# EAGLE library part MT48LC32M16A2 (library dan-dram)
MT48LC32M16A2 Synchronous DRAM The 512Mb SDRAM is a high-speed CMOS, dynamic random-access memory containing 536,870,912 bits. It is internally configured as a quad-bank DRAM with a synchronous interface (all signals are registered on the positive edge of the clock signal, CLK). Each of the x4?s 134,217,728-bit banks is organized as 8,192 rows by 4,096 columns by 4 bits. Each of the x8?s 134,217,728-bit banks is organized as 8,192 rows by 2,048 columns by 8 bits. Each of the x16?s 134,217,728-bit banks is organized as 8,192 rows by 1,024 columns by 16 bits. Read and write accesses to the SDRAM are burst oriented; accesses start at a selected location and continue for a programmed number of locations in a programmed sequence. Accesses begin with the registration of an ACTIVE command, which is then followed by a READ or WRITE command. The address bits registered coincident with the ACTIVE command are used to select the bank and row to be accessed (BA0, BA1 select the bank; A0?A12 select the row). The address bits registered coincident with the READ or WRITE command are used to select the starting column location for the burst access. The SDRAM provides for programmable READ or WRITE burst lengths (BL) of 1, 2, 4, or 8 locations, or the full page, with a burst terminate option. An auto precharge function may be enabled to provide a self-timed row precharge that is initiated at the end of the burst sequence. The 512Mb SDRAM uses an internal pipelined architecture to achieve high-speed operation. This architecture is compatible with the 2n rule of prefetch architectures, but it also allows the column address to be changed on every clock cycle to achieve a high-speed, fully random access. Precharging one bank while accessing one of the other three banks will hide the PRECHARGE cycles and provide seamless, high-speed, random-access operation. The 512Mb SDRAM is designed to operate at 3.3V. An auto refresh mode is provided, along with a power-saving, power-down mode. All inputs and outputs are LVTTLcompatible. SDRAMs offer substantial advances in DRAM operating performance, including the ability to synchronously burst data at a high data rate with automatic column-address generation, the ability to interleave between internal banks to hide precharge time, and the capability to randomly change column addresses on each clock cycle during a burst access.
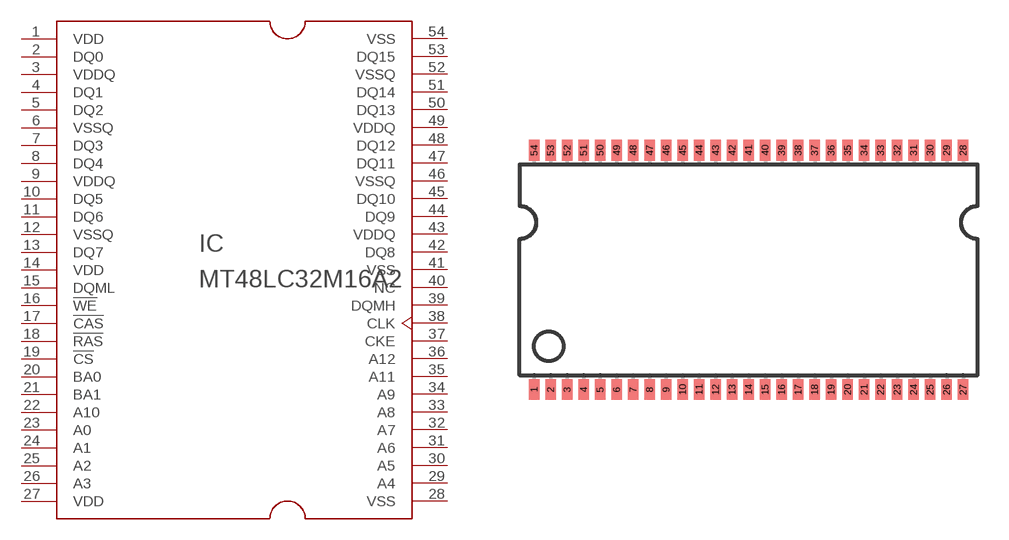
[diagram p0: symbol with the pads of TSOP54; footprint TSOP54]

Designator prefix IC

## MT48LC32M16A2  [TSOP54]
1  VDD  pas
2  DQ0
3  VDDQ  pas
4  DQ1
5  DQ2
6  VSSQ  pas
7  DQ3
8  DQ4
9  VDDQ  pas
10  DQ5
11  DQ6
12  VSSQ  pas
13  DQ7
14  VDD  pas
15  DQML  in
16  !WE  in
17  !CAS  in
18  !RAS  in
19  !CS  in
20  BA0  in
21  BA1  in
22  A10  in
23  A0  in
24  A1  in
25  A2  in
26  A3  in
27  VDD  pas
28  VSS  pas
29  A4  in
30  A5  in
31  A6  in
32  A7  in
33  A8  in
34  A9  in
35  A11  in
36  A12  in
37  CKE  in
38  CLK  in
39  DQMH  in
40  NC  nc
41  VSS  pas
42  DQ8
43  VDDQ  pwr
44  DQ9
45  DQ10
46  VSSQ  pas
47  DQ11
48  DQ12
49  VDDQ  pas
50  DQ13
51  DQ14
52  VSSQ  pas
53  DQ15
54  VSS  pas

## Footprint TSOP54 (pad centres in mm)
smd 0.5 x 1: 1 -10.4,-5.8; 2 -9.6,-5.8; 3 -8.8,-5.8; 4 -8,-5.8; 5 -7.2,-5.8; 6 -6.4,-5.8; 7 -5.6,-5.8; 8 -4.8,-5.8; 9 -4,-5.8; 10 -3.2,-5.8; 11 -2.4,-5.8; 12 -1.6,-5.8; 13 -0.8,-5.8; 14 0,-5.8; 15 0.8,-5.8; 16 1.6,-5.8; 17 2.4,-5.8; 18 3.2,-5.8; 19 4,-5.8; 20 4.8,-5.8; 21 5.6,-5.8; 22 6.4,-5.8; 23 7.2,-5.8; 24 8,-5.8; 25 8.8,-5.8; 26 9.6,-5.8; 27 10.4,-5.8; 28 10.4,5.8; 29 9.6,5.8; 30 8.8,5.8; 31 8,5.8; 32 7.2,5.8; 33 6.4,5.8; 34 5.6,5.8; 35 4.8,5.8; 36 4,5.8; 37 3.2,5.8; 38 2.4,5.8; 39 1.6,5.8; 40 0.8,5.8; 41 0,5.8; 42 -0.8,5.8; 43 -1.6,5.8; 44 -2.4,5.8; 45 -3.2,5.8; 46 -4,5.8; 47 -4.8,5.8; 48 -5.6,5.8; 49 -6.4,5.8; 50 -7.2,5.8; 51 -8,5.8; 52 -8.8,5.8; 53 -9.6,5.8; 54 -10.4,5.8